# Altium schematic symbol library Devre_2_Proje.SchLib: 9 symbols
Pins are listed as number, name and electrical type; pins without a type are passive.

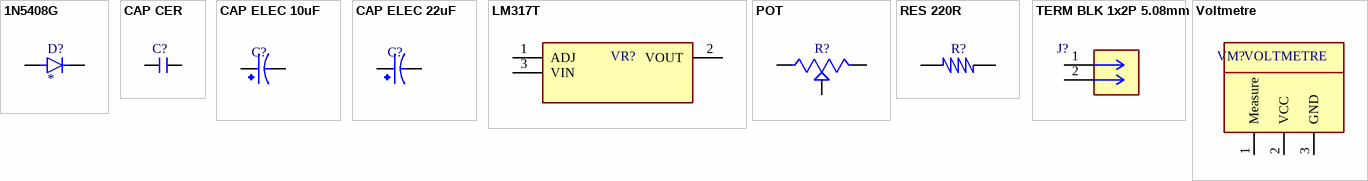
[diagram p0: symbols 1N5408G to Voltmetre]

## 1N5408G
designator D?
3A, 1000V, Standard Rectifier; MF: Taiwan Semiconductor; MP: 1N5408G; SnapEDA_Link: https://www.snapeda.com/parts/1N5408G/taiwan/view-part/?ref=snap; Package: DO-201AD Taiwan Semiconductor; Value: *; Check_prices: https://www.snapeda.com/parts/1N5408G/taiwan/view-part/?ref=eda
footprint DIODE_1N5408
pins: A, C K

## CAP CER
designator C?  (value not drawn)
0.1uF (100nF)
footprint CAP-CER-100nF
pins: 1, 2

## CAP ELEC 10uF
designator C?  (value not drawn)
CAP-ELEC 10 uF
footprint CAP-ELEC
pins: 1, 2

## CAP ELEC 22uF
designator C?  (value not drawn)
CAP-ELEC 22 uF
footprint CAP-ELEC
pins: 1, 2

## LM317T
designator VR?  (value not drawn)
Linear Voltage Regulator IC Positive Adjustable 1 Output 1.5A TO-220AB; MF: onsemi; MP: LM317T; SnapEDA_Link: https://www.snapeda.com/parts/LM317T/Onsemi/view-part/?ref=snap; Package: TO-220-3 ON; Value: *; Check_prices: https://www.snapeda.com/parts/LM317T/Onsemi/view-part/?ref=eda
footprint LM317T
pins: 1 ADJ, 2 VOUT, 3 VIN

## POT
designator R?  (value not drawn)
16mm Rotary Potentiometers; MF: Kls electronics; MP: WH148-1A-2-18T-L20; SnapEDA_Link: https://www.snapeda.com/parts/WH148-1A-2-18T-L20/Kls+electronics/view-part/?ref=snap; Package: Package; Value: *; Check_prices: https://www.snapeda.com/parts/WH148-1A-2-18T-L20/Kls+electronics/view-part/?ref=eda
footprint POT
pins: 1, 2, 3

## RES 220R
designator R?  (value not drawn)
RES 220R 2W / AXIAL-0.7 /
footprint RES-AXIAL-0.7
pins: 1, 2

## TERM BLK 1x2P 5.08mm
designator J?  (value not drawn)
17.5A 1x2P 2P 400V 5.08mm Board Side/Plug Green 2 1 Through Hole,P=5.08mm Headers, Plugs and Sockets RoHS; Value: Term Block; MF: Phoenix Contact; MP: MKDS 1,5/ 2-5,08; Package: Through Hole,P=5.08mm; Voltage Rating (Max): 400V; Current Rating: 17.5A
footprint Term_Block_5.08mm-1x2P
pins: 1, 2

## Voltmetre
designator VM?  (value not drawn)
Voltmetre 3 kablolu 0-100V
footprint Voltmetre
pins: 1 Measure, 2 VCC, 3 GND
text: VOLTMETRE